# Altium footprint library Cube.PcbLib: 27 footprints (part 2 of 2)
Each footprint in its own frame and in the unit in brackets; x right, y up, seen from the top. Pads: shape width x height; smd on the part's side, far side on the other; paste and mask are expansions set on the pad; w line width, h text height; cw(c..) or ccw(c..) is an arc to the next point about the centre after c.
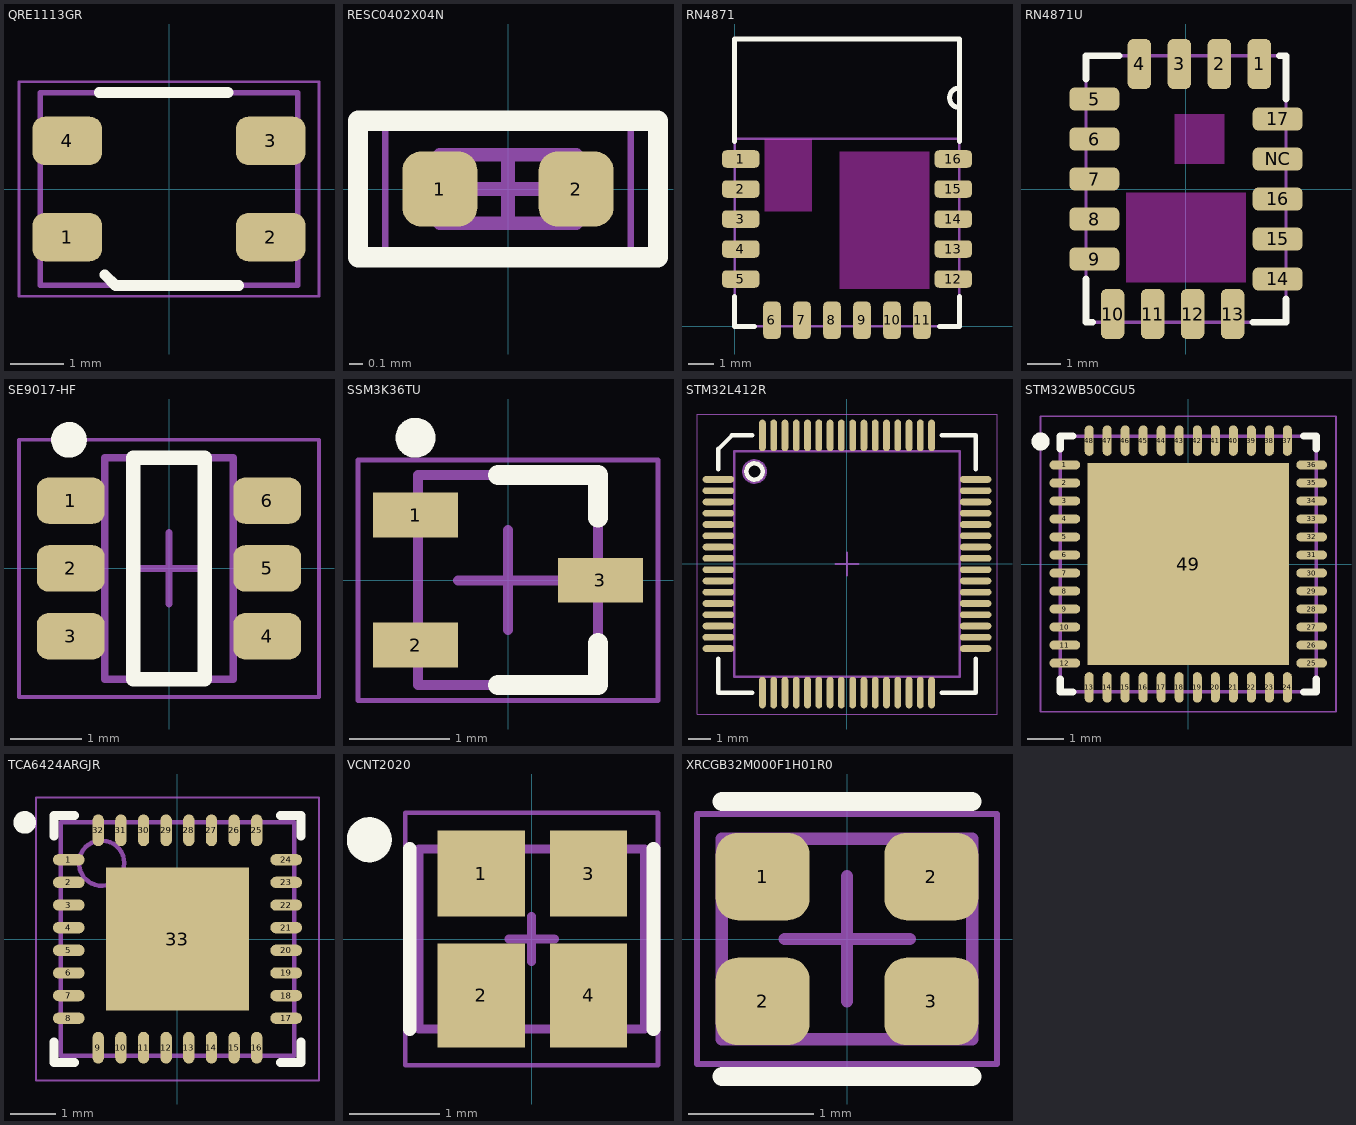
[diagram p1: the footprints below, top view; thin cyan lines are the x and y axes]

## QRE1113GR [mm]
pads (4):
  rrect50% 1.3x0.9 smd: 1(-1.9,-0.9) 2(1.9,-0.9) 3(1.9,0.9) 4(-1.9,0.9)
Top Overlay:
  lines w0.2: -1.3,1.8 1.1,1.8 ; -1.2,-1.6 -1,-1.8 1.3,-1.8
Top Assembly:
  lines w0.1: -2.4,-1.8 -2.4,1.8 2.4,1.8 2.4,-1.8 -2.4,-1.8
  text "'.Designator'" at -1.203,-0.113 h0.5
Top Courtyard:
  lines w0.05: -2.8,-2 2.8,-2 2.8,2 -2.8,2 -2.8,-2
3D body "QRE1113.STEP": height 1.71, standoff 0.01, extent -2.4,-1.8 2.4,1.8

## RESC0402X04N [mm] "Chip Resistor, 2-Leads, Body 1.00x0.50mm, IPC Medium Density"
height 0.35
pads (2):
  rrect50% 0.55x0.55 smd: 1(-0.5,0) 2(0.5,0)
Top Overlay:
  lines w0.15: -1.1,-0.5 1.1,-0.5 1.1,0.5 -1.1,0.5 -1.1,-0.5
Top Assembly:
  lines w0.1: -0.5,-0.25 0.5,-0.25 0.5,0.25 -0.5,0.25 -0.5,-0.25
  text "'.Designator'" at -0.726,-0.068 h0.3
Top Courtyard:
  lines w0.05: -0.9,-0.45 0.9,-0.45 0.9,0.45 -0.9,0.45 -0.9,-0.45
  lines w0.1: -0.25,0 0.25,0 ; 0,-0.25 0,0.25
3D body "RESC1005X04N.step": height 0.35, standoff 0, extent -0.5,-0.25 0.5,0.25

## RN4871 [mm]
height 2.1
pads (16):
  rrect50% 1.5x0.7 smd: 1(0.25,6.7) 2(0.25,5.5) 3(0.25,4.3) 4(0.25,3.1) 5(0.25,1.9) 12(8.75,1.9) 13(8.75,3.1) 14(8.75,4.3) 15(8.75,5.5) 16(8.75,6.7)
  rrect50% 0.7x1.5 smd: 6(1.5,0.25) 7(2.7,0.25) 8(3.9,0.25) 9(5.1,0.25) 10(6.3,0.25) 11(7.5,0.25)
Top Layer keep-out:
  rectangle: 4.2,1.5 7.8,7
  rectangle: 1.2,4.6 3.1,7.5
Top Overlay:
  lines w0.2: 0,1.2 0,0 0.8,0 ; 0,7.4 0,11.5 9,11.5 9,7.4 ; 8.2,0 9,0 9,1.2 ; 9,8.75 cw(c9,9.15) 9,9.55
Top Assembly:
  lines w0.1: 0,7.5 9,7.5 ; 0,0 9,0 9,11.5 0,11.5 0,0
  text "'.Designator'" at 1.598,4.228 h1.2
3D body "RN4871.STEP": height 2.14, standoff 0.01, extent 0,0 9,11.5

## RN4871U [mm]
height 1.6
pads (18):
  rrect50% 0.7x1.5 smd: 1(2.2,3.75) 2(1,3.75) 3(-0.2,3.75) 4(-1.4,3.75) 10(-2.2,-3.75) 11(-1,-3.75) 12(0.2,-3.75) 13(1.4,-3.75)
  rrect50% 1.5x0.7 smd: 5(-2.75,2.7) 6(-2.75,1.5) 7(-2.75,0.3) 8(-2.75,-0.9) 9(-2.75,-2.1) 14(2.75,-2.7) 15(2.75,-1.5) 16(2.75,-0.3) 17(2.75,2.1) NC(2.75,0.9)
Top Layer keep-out:
  rectangle: -0.35,0.75 1.15,2.25
  rectangle: -1.8,-2.8 1.8,-0.1
Top Overlay:
  lines w0.2: -3,-2.7 -3,-4 -2.8,-4 ; -3,3.3 -3,4 -2,4 ; 2,-4 3,-4 3,-3.3 ; 2.8,4 3,4 3,2.7
Top Assembly:
  lines w0.1: -3,-4 3,-4 3,4 -3,4 -3,-4
  text "'.Designator'" at -2.902,-0.272 h1.2
3D body "RN4871U.STEP": height 1.6, standoff -0.03, extent -3,-4 3,4

## SE9017-HF [mm] "SOT23, 6-Leads, Body 2.90x2.80mm, Pitch 0.95mm, IPC Medium Density"
height 1.3
pads (6):
  rrect50% 0.95x0.65 smd: 1(-1.375,0.95) 2(-1.375,0) 3(-1.375,-0.95) 4(1.375,-0.95) 5(1.375,0) 6(1.375,0.95)
Top Overlay:
  circle w0.25: c-1.4,1.8 r0.125
  lines w0.2: -0.5,-1.55 0.5,-1.55 0.5,1.55 -0.5,1.55 -0.5,-1.55
Top Assembly:
  lines w0.1: -0.9,-1.55 -0.9,1.55 0.9,1.55 0.9,-1.55 -0.9,-1.55
  text "'.Designator'" at 0.226,-2.416 h1
Top Courtyard:
  lines w0.05: -2.1,-1.8 -2.1,1.8 2.1,1.8 2.1,-1.8 -2.1,-1.8
  lines w0.1: -0.5,0 0.5,0 ; 0,-0.5 0,0.5
3D body "SOT95P280X130-6N.step": height 1.3, standoff 0, extent -1.5,-1.55 1.5,1.55

## SSM3K36TU [mm] "SOTFL, 3-Leads, Body 2.00x2.10mm, Pitch 0.65mm, IPC Medium Density"
height 0.75
pads (3):
  rect 0.85x0.45 smd: 1(-0.925,0.65) 2(-0.925,-0.65) 3(0.925,0)
Top Overlay:
  circle w0.2: c-0.925,1.425 r0.1
  lines w0.2: -0.1,-1.05 0.9,-1.05 0.9,-0.625 ; -0.1,1.05 0.9,1.05 0.9,0.625
Top Assembly:
  lines w0.1: -0.9,-1.05 0.9,-1.05 0.9,1.05 -0.9,1.05 -0.9,-1.05
  text "'.Designator'" at -2.416,-0.414 h0.5
Top Courtyard:
  lines w0.05: -1.5,-1.2 1.5,-1.2 1.5,1.2 -1.5,1.2 -1.5,-1.2
  lines w0.1: -0.5,0 0.5,0 ; 0,-0.5 0,0.5
3D body "SOTFL65P210X75-3N.step": height 0.75, standoff 0, extent -1.05,-1.048 1.05,1.048

## STM32L412R [mm] "TSQFP, 64-Leads, Body 10.00x10.00mm, Pitch 0.50mm, IPC Medium Density"
height 1.6
pads (64):
  oval 1.4x0.3 smd: 1(-5.7,3.75) 2(-5.7,3.25) 3(-5.7,2.75) 4(-5.7,2.25) 5(-5.7,1.75) 6(-5.7,1.25) 7(-5.7,0.75) 8(-5.7,0.25) 9(-5.7,-0.25) 10(-5.7,-0.75) 11(-5.7,-1.25) 12(-5.7,-1.75) 13(-5.7,-2.25) 14(-5.7,-2.75) 15(-5.7,-3.25) 16(-5.7,-3.75) 33(5.7,-3.75) 34(5.7,-3.25) 35(5.7,-2.75) 36(5.7,-2.25) 37(5.7,-1.75) 38(5.7,-1.25) 39(5.7,-0.75) 40(5.7,-0.25) 41(5.7,0.25) 42(5.7,0.75) 43(5.7,1.25) 44(5.7,1.75) 45(5.7,2.25) 46(5.7,2.75) 47(5.7,3.25) 48(5.7,3.75)
  oval 0.3x1.4 smd: 17(-3.75,-5.7) 18(-3.25,-5.7) 19(-2.75,-5.7) 20(-2.25,-5.7) 21(-1.75,-5.7) 22(-1.25,-5.7) 23(-0.75,-5.7) 24(-0.25,-5.7) 25(0.25,-5.7) 26(0.75,-5.7) 27(1.25,-5.7) 28(1.75,-5.7) 29(2.25,-5.7) 30(2.75,-5.7) 31(3.25,-5.7) 32(3.75,-5.7) 49(3.75,5.7) 50(3.25,5.7) 51(2.75,5.7) 52(2.25,5.7) 53(1.75,5.7) 54(1.25,5.7) 55(0.75,5.7) 56(0.25,5.7) 57(-0.25,5.7) 58(-0.75,5.7) 59(-1.25,5.7) 60(-1.75,5.7) 61(-2.25,5.7) 62(-2.75,5.7) 63(-3.25,5.7) 64(-3.75,5.7)
Top Overlay:
  circle w0.2: c-4.1,4.1 r0.361
  lines w0.2: -5.7,-4.2 -5.7,-5.7 -4.2,-5.7 ; -5.7,4.2 -5.7,5.1 -5.1,5.7 -4.2,5.7 ; 4.2,-5.7 5.7,-5.7 5.7,-4.2 ; 4.2,5.7 5.7,5.7 5.7,4.2
Top Assembly:
  circle w0.1: c-4.1,4.1 r0.5
  lines w0.1: -5,-5 5,-5 5,5 -5,5 -5,-5
  text "'.Designator'" at -3.628,-0.34 h1.5
Top Courtyard:
  lines w0.05: -6.65,-6.65 6.65,-6.65 6.65,6.65 -6.65,6.65 -6.65,-6.65
  lines w0.1: -0.5,0 0.5,0 ; 0,-0.5 0,0.5
3D body "TSQFP50P1200X1200X160-64N.step": height 1.6, standoff 0, extent -6,-6 6,6

## STM32WB50CGU5 [mm] "QFN, 48-Leads, Body 7.00x7.00mm, Pitch 0.50mm, Thermal Pad 5.60x5.60mm, IPC Medium Density"
height 0.6
pads (49):
  oval 0.85x0.25 smd: 1(-3.425,2.75) 2(-3.425,2.25) 3(-3.425,1.75) 4(-3.425,1.25) 5(-3.425,0.75) 6(-3.425,0.25) 7(-3.425,-0.25) 8(-3.425,-0.75) 9(-3.425,-1.25) 10(-3.425,-1.75) 11(-3.425,-2.25) 12(-3.425,-2.75) 25(3.425,-2.75) 26(3.425,-2.25) 27(3.425,-1.75) 28(3.425,-1.25) 29(3.425,-0.75) 30(3.425,-0.25) 31(3.425,0.25) 32(3.425,0.75) 33(3.425,1.25) 34(3.425,1.75) 35(3.425,2.25) 36(3.425,2.75)
  oval 0.25x0.85 smd: 13(-2.75,-3.425) 14(-2.25,-3.425) 15(-1.75,-3.425) 16(-1.25,-3.425) 17(-0.75,-3.425) 18(-0.25,-3.425) 19(0.25,-3.425) 20(0.75,-3.425) 21(1.25,-3.425) 22(1.75,-3.425) 23(2.25,-3.425) 24(2.75,-3.425) 37(2.75,3.425) 38(2.25,3.425) 39(1.75,3.425) 40(1.25,3.425) 41(0.75,3.425) 42(0.25,3.425) 43(-0.25,3.425) 44(-0.75,3.425) 45(-1.25,3.425) 46(-1.75,3.425) 47(-2.25,3.425) 48(-2.75,3.425)
  rect 5.6x5.6 smd: 49(0,0)
Top Overlay:
  circle w0.25: c-4.1,3.4 r0.125
  lines w0.2: -3.55,-3.2 -3.55,-3.55 -3.2,-3.55 ; -3.55,3.2 -3.55,3.55 -3.2,3.55 ; 3.2,-3.55 3.55,-3.55 3.55,-3.2 ; 3.2,3.55 3.55,3.55 3.55,3.2
Top Assembly:
  lines w0.1: -3.55,-3.55 3.55,-3.55 3.55,3.55 -3.55,3.55 -3.55,-3.55
  text "'.Designator'" at -2.416,-0.414 h1
Top Courtyard:
  lines w0.05: -4.1,-4.1 4.1,-4.1 4.1,4.1 -4.1,4.1 -4.1,-4.1
  lines w0.1: -0.5,0 0.5,0 ; 0,-0.5 0,0.5
3D body "QFN50P700X700X60_HS-49N.step": height 0.6, standoff 0, extent -3.57,-3.57 3.57,3.57

## TCA6424ARGJR [mm] "QFN, 32-Leads, Body 5.00x5.00mm, Pitch 0.50mm, Thermal Pad 3.15x3.15mm, IPC Medium Density"
height 0.6
pads (33):
  oval 0.7x0.25 smd: 1(-2.4,1.75) 2(-2.4,1.25) 3(-2.4,0.75) 4(-2.4,0.25) 5(-2.4,-0.25) 6(-2.4,-0.75) 7(-2.4,-1.25) 8(-2.4,-1.75) 17(2.4,-1.75) 18(2.4,-1.25) 19(2.4,-0.75) 20(2.4,-0.25) 21(2.4,0.25) 22(2.4,0.75) 23(2.4,1.25) 24(2.4,1.75)
  oval 0.25x0.7 smd: 9(-1.75,-2.4) 10(-1.25,-2.4) 11(-0.75,-2.4) 12(-0.25,-2.4) 13(0.25,-2.4) 14(0.75,-2.4) 15(1.25,-2.4) 16(1.75,-2.4) 25(1.75,2.4) 26(1.25,2.4) 27(0.75,2.4) 28(0.25,2.4) 29(-0.25,2.4) 30(-0.75,2.4) 31(-1.25,2.4) 32(-1.75,2.4)
  rect 3.15x3.15 smd: 33(0,0)
Top Overlay:
  circle w0.25: c-3.375,2.575 r0.125
  lines w0.2: -2.725,-2.275 -2.725,-2.725 -2.275,-2.725 ; -2.725,2.275 -2.725,2.725 -2.275,2.725 ; 2.275,-2.725 2.725,-2.725 2.725,-2.275 ; 2.275,2.725 2.725,2.725 2.725,2.275
Top Assembly:
  circle w0.1: c-1.675,1.675 r0.5
  lines w0.1: -2.575,-2.575 2.575,-2.575 2.575,2.575 -2.575,2.575 -2.575,-2.575
  text "'.Designator'" at -2.416,-0.414 h1
Top Courtyard:
  lines w0.05: -3.125,-3.125 3.125,-3.125 3.125,3.125 -3.125,3.125 -3.125,-3.125
  lines w0.1: -0.5,0 0.5,0 ; 0,-0.5 0,0.5
3D body "QFN50P500X500X60_HS-33N.step": height 0.6, standoff 0, extent -2.595,-2.595 2.595,2.595

## VCNT2020 [mm] "4-SMD"
height 0.8
pads (4):
  rect 0.97x0.95 smd: 1(-0.56,0.725)
  rect 0.97x1.15 smd: 2(-0.56,-0.625)
  rect 0.85x0.95 smd: 3(0.63,0.725)
  rect 0.85x1.15 smd: 4(0.63,-0.625)
Top Overlay:
  circle w0.25: c-1.8,1.1 r0.125
  lines w0.15: -1.35,-1 -1.35,1 ; 1.35,-1 1.35,1
Top Assembly:
  lines w0.1: -1.25,-1 -1.25,1 1.25,1 1.25,-1 -1.25,-1
  text "'.Designator'" at -1.203,-0.113 h0.5
Top Courtyard:
  lines w0.05: -1.4,-1.4 1.4,-1.4 1.4,1.4 -1.4,1.4 -1.4,-1.4
  lines w0.1: -0.25,0 0.25,0 ; 0,-0.25 0,0.25
3D body "VCNT2020.STEP": height 0.81, standoff 0.01, extent -1.25,-1 1.25,1

## XRCGB32M000F1H01R0 [mm]
pads (4):
  rrect50% 0.75x0.7 smd: 1(-0.675,0.5) 2(-0.675,-0.5) 2(0.675,0.5) 3(0.675,-0.5)
Top Overlay:
  lines w0.15: -1,-1.1 1,-1.1 ; -1,1.1 1,1.1
Top Assembly:
  lines w0.1: -1,-0.8 1,-0.8 1,0.8 -1,0.8 -1,-0.8
  text "'.Designator'" at -1.203,-0.113 h0.5
Top Courtyard:
  lines w0.05: -1.2,-1 1.2,-1 1.2,1 -1.2,1 -1.2,-1
  lines w0.1: -0.5,0 0.5,0 ; 0,-0.5 0,0.5
3D body "XRCGB32M000F1H01R0.STEP": height 0.66, standoff 0.01, extent -1,-0.8 1,0.8